# EAGLE library part TEMP_HUM (library TIcustom)
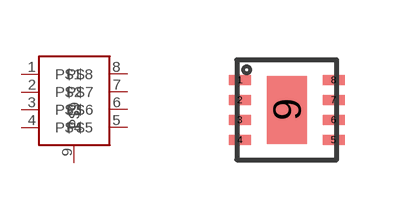
[diagram p7: symbol with the pads of TEMP_HUM; footprint TEMP_HUM]

Designator prefix -

## TEMP_HUM  [TEMP_HUM]
1  P$1
2  P$2
3  P$3
4  P$4
5  P$5
6  P$6
7  P$7
8  P$8
9  P$9

## Footprint TEMP_HUM (pad centres in mm)
smd 0.55 x 0.25: 1 -1.175,0.75; 2 -1.175,0.25; 3 -1.175,-0.25; 4 -1.175,-0.75; 5 1.175,-0.75; 6 1.175,-0.25; 7 1.175,0.25; 8 1.175,0.75
smd 1 x 1.7: 9 0,0